# Altium schematic symbol library Schlib1.SchLib: 1 symbol
Pins are listed as number, name and electrical type; pins without a type are passive.

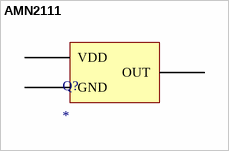
[diagram p0: symbol AMN2111]

## AMN2111
designator Q?
footprint AMN21111
pins: 1 VDD, 2 GND, 3 OUT